# EAGLE library part ESP-07/12 (library ali_modules)
Wifi module ESP-07 or ESP-12
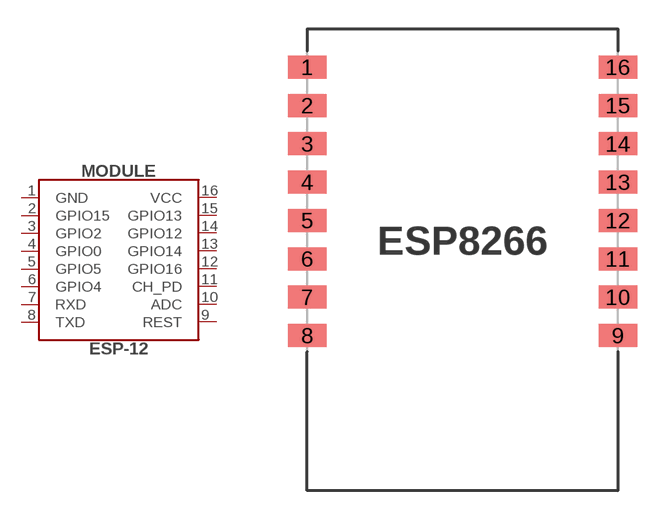
[diagram p11: symbol with the pads of ESP8266-ESP12; footprint ESP8266-ESP12]

Designator prefix MODULE

## ESP-07/12  [ESP8266-ESP12]
1  GND
2  GPIO15
3  GPIO2
4  GPIO0
5  GPIO5
6  GPIO4
7  RXD
8  TXD
9  REST
10  ADC
11  CH_PD
12  GPIO16
13  GPIO14
14  GPIO12
15  GPIO13
16  VCC

## Footprint ESP8266-ESP12 (pad centres in mm)
smd 2 x 1.2: 1 -8.1,10.05; 2 -8.1,8.05; 3 -8.1,6.05; 4 -8.1,4.05; 5 -8.1,2.05; 6 -8.1,0.05; 7 -8.1,-1.95; 8 -8.1,-3.95; 9 8.1,-3.95; 10 8.1,-1.95; 11 8.1,0.05; 12 8.1,2.05; 13 8.1,4.05; 14 8.1,6.05; 15 8.1,8.05; 16 8.1,10.05